# Altium schematic symbol library DRIVER-DRV8701.Schlib: 1 symbol
Pins are listed as number, name and electrical type; pins without a type are passive.

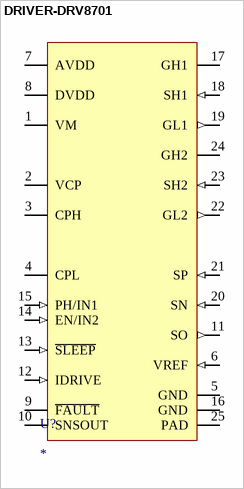
[diagram p0: symbol DRIVER-DRV8701]

## DRIVER-DRV8701
designator U?
45-V, H-bridge smart gate driver 24-VQFN -40 to 125
pins: 1 VM, 2 VCP, 3 CPH, 4 CPL, 5 GND, 6 VREF (in), 7 AVDD, 8 DVDD, 9 ~{FAULT}, 10 SNSOUT, 11 SO (out), 12 IDRIVE (in), 13 ~{SLEEP} (in), 14 EN/IN2 (in), 15 PH/IN1 (in), 16 GND, 17 GH1, 18 SH1 (in), 19 GL1 (out), 20 SN (in), 21 SP (in), 22 GL2 (out), 23 SH2 (in), 24 GH2, 25 PAD